# Altium footprint library MICROCHIP_20-Lead_5x5VQFN.PcbLib: 1 footprints
Each footprint in its own frame and in the unit in brackets; x right, y up, seen from the top. Pads: shape width x height; smd on the part's side, far side on the other; paste and mask are expansions set on the pad; w line width, h text height; cw(c..) or ccw(c..) is an arc to the next point about the centre after c.
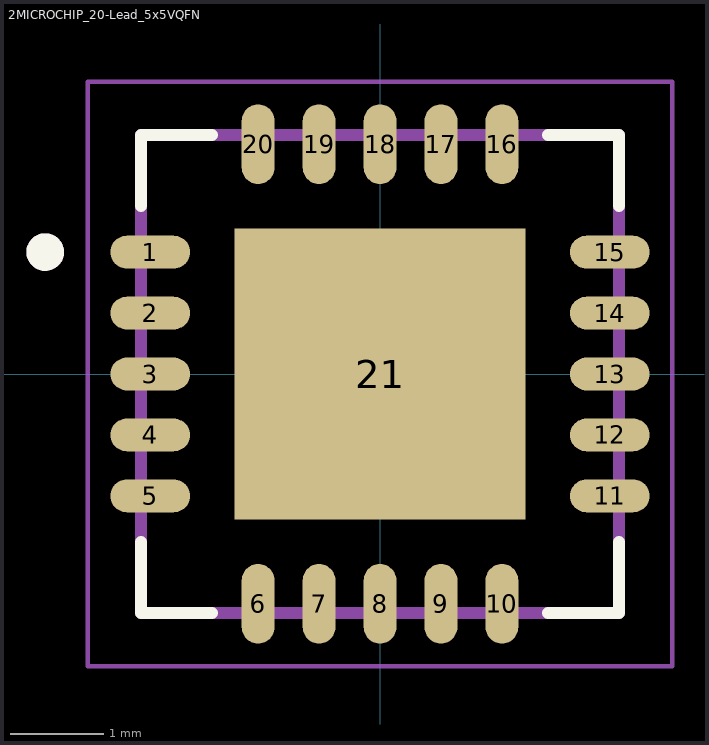
[diagram p0: the footprint, top view; thin cyan lines are the x and y axes]

## 2MICROCHIP_20-Lead_5x5VQFN [mm]
pads (21):
  rrect100% 0.85x0.35 smd: 1(-2.45,1.3) 2(-2.45,0.65) 3(-2.45,0) 4(-2.45,-0.65) 5(-2.45,-1.3) 11(2.45,-1.3) 12(2.45,-0.65) 13(2.45,0) 14(2.45,0.65) 15(2.45,1.3)
  rrect100% 0.35x0.85 smd: 6(-1.3,-2.45) 7(-0.65,-2.45) 8(0,-2.45) 9(0.65,-2.45) 10(1.3,-2.45) 16(1.3,2.45) 17(0.65,2.45) 18(0,2.45) 19(-0.65,2.45) 20(-1.3,2.45)
  rect 3.1x3.1 smd paste-0.37: 21(0,0)
Top Overlay:
  circle w0.2: c-3.57,1.3 r0.1
  lines w0.127: -2.55,-1.79 -2.55,-2.55 -1.79,-2.55 ; -2.55,1.79 -2.55,2.55 -1.79,2.55 ; 1.79,-2.55 2.55,-2.55 2.55,-1.79 ; 1.79,2.55 2.55,2.55 2.55,1.79
Mechanical 13:
  circle w0.2: c-3.57,1.3 r0.1
  lines w0.127: -2.55,-2.55 2.55,-2.55 2.55,2.55 -2.55,2.55 -2.55,-2.55
Mechanical 15:
  lines w0.05: -3.115,-3.115 3.115,-3.115 3.115,3.115 -3.115,3.115 -3.115,-3.115
3D body "20 VQFN 5x5.step": height 0.85, standoff -0.02, extent -2.5,-2.5 2.5,2.5